# EAGLE library part NJM386B (library OPAMP)
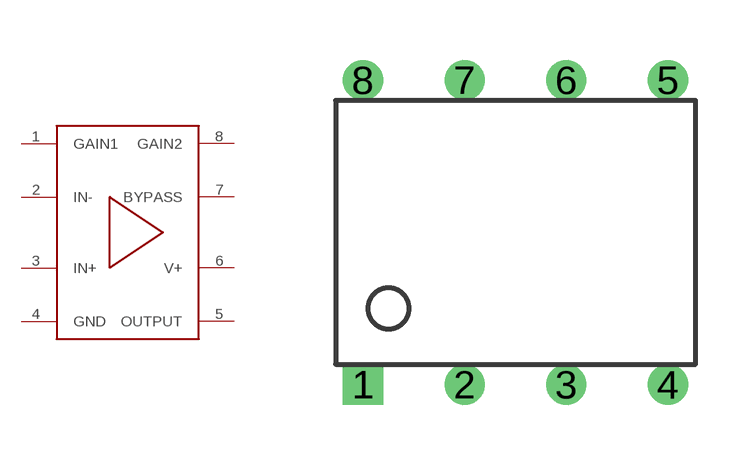
[diagram p1: symbol with the pads of DIP8; footprint DIP8]

Designator prefix OP

## NJM386BNJM386B  [DIP8]
1  GAIN1
2  IN-
3  IN+
4  GND
5  OUTPUT
6  V+
7  BYPASS
8  GAIN2

## Footprint DIP8 (pad centres in mm)
drill 0.5 square: 1 -3.81,-3.81
drill 0.5: 2 -1.27,-3.81; 3 1.27,-3.81; 4 3.81,-3.81; 5 3.81,3.81; 6 1.27,3.81; 7 -1.27,3.81; 8 -3.81,3.81